# Altium schematic symbol library B32-2010.SchLib: 1 symbol
Pins are listed as number, name and electrical type; pins without a type are passive.

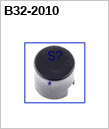
[diagram p0: symbol B32-2010]

## B32-2010
designator S?